# EAGLE library part LM3409HV (library ICs)
LM3409, -Q1, LM3409HV, -Q1 P-FET Buck Controller for High-Power LED Drivers
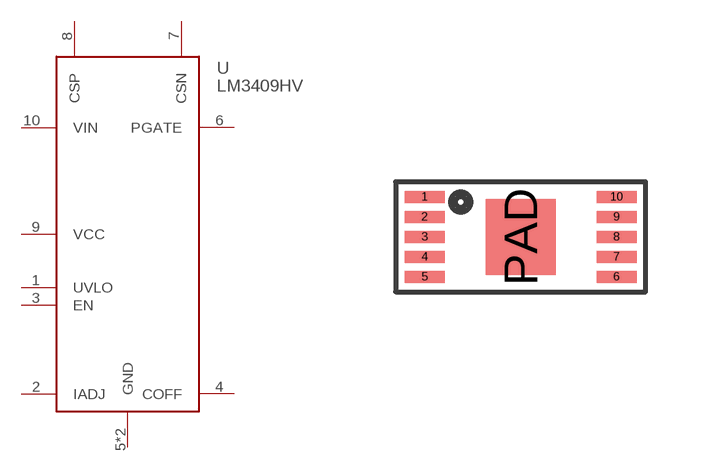
[diagram p226: symbol with the pads of MSSP10-PAD; footprint MSSP10-PAD]

Designator prefix U

## LM3409HV (DIGIKEY: LM3409HVMY/NOPBCT-ND; HEIGHT: 1; PRICE_PER: 1.19; VALUE: LM3409)  [MSSP10-PAD]
1  UVLO
2  IADJ
3  EN
4  COFF
5  GND
6  PGATE
7  CSN
8  CSP
9  VCC
10  VIN
PAD  GND

## Footprint MSSP10-PAD (pad centres in mm)
smd 1 x 0.3: 1 -2.4,1; 2 -2.4,0.5; 3 -2.4,0; 4 -2.4,-0.5; 5 -2.4,-1; 6 2.4,-1; 7 2.4,-0.5; 8 2.4,0; 9 2.4,0.5; 10 2.4,1
smd 1.75 x 1.9: PAD 0,0